# EAGLE library part LM6059BCW (library artek)
from Seeedstudio
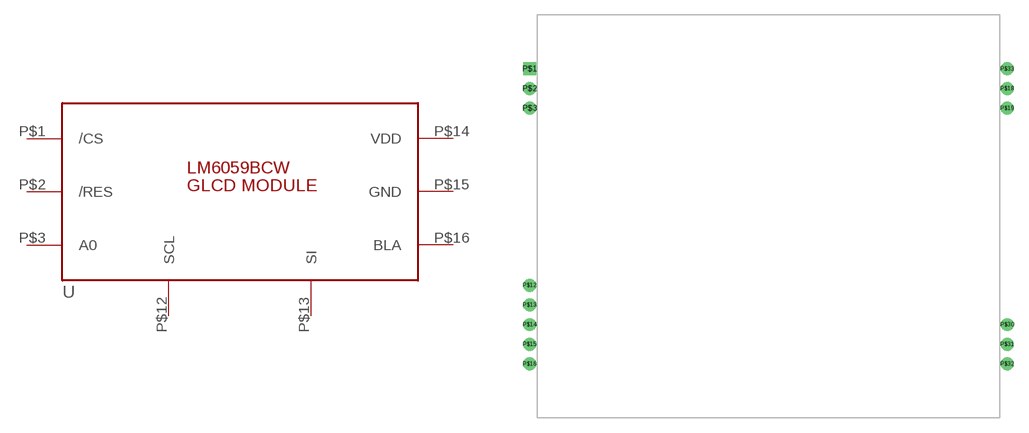
[diagram p0: symbol with the pads of LM6059BCW; footprint LM6059BCW]

Designator prefix -

## LM6059BCW  [LM6059BCW]
P$1  /CS
P$2  /RES
P$3  A0
P$12  SCL
P$13  SI
P$14  VDD  sup
P$15  GND  sup
P$16  BLA  sup

## Footprint LM6059BCW (pad centres in mm)
drill 0.8 square: P$1 -0.65,35.6
drill 0.8 round: P$2 -0.65,33.6; P$3 -0.65,31.6; P$12 -0.65,13.6; P$13 -0.65,11.6; P$14 -0.65,9.6; P$15 -0.65,7.6; P$16 -0.65,5.6; P$18 47.85,33.6; P$19 47.85,31.6; P$30 47.85,9.6; P$31 47.85,7.6; P$32 47.85,5.6; P$33 47.85,35.6